# EAGLE library part RES-ARRAY-742C083 (library GROUND-STATION-POWER-BOARD)
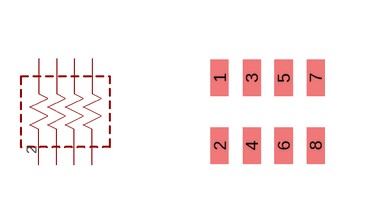
[diagram p6: symbol with the pads of RES-ARRAY-742C083; footprint RES-ARRAY-742C083]

Designator prefix R

## RES-ARRAY-742C083  [RES-ARRAY-742C083]
1  !1OE1
2  !1OE2
3  !1OE3
4  !1OE4
5  !1OE5
6  !1OE6
7  !1OE7
8  !1OE8

## Footprint RES-ARRAY-742C083 (pad centres in mm)
smd 0.45 x 0.9: 1 -1.2,0.85; 2 -1.2,-0.85; 3 -0.4,0.85; 4 -0.4,-0.85; 5 0.4,0.85; 6 0.4,-0.85; 7 1.2,0.85; 8 1.2,-0.85